# Altium schematic symbol library Symbols.SchLib: 8 symbols
Pins are listed as number, name and electrical type; pins without a type are passive.

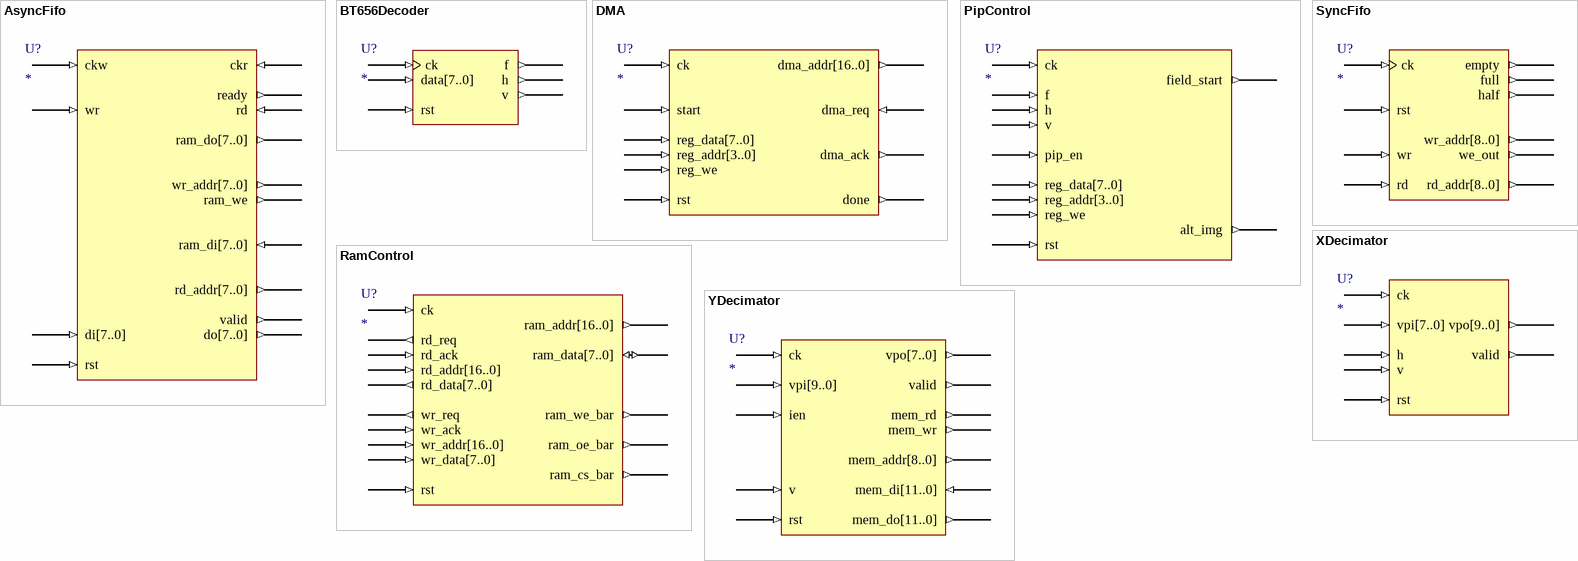
[diagram p0: symbols AsyncFifo to YDecimator]

## AsyncFifo
designator U?
pins: ckr (in), ckw (in), di[7..0] (in), do[7..0] (out), ram_di[7..0] (in), ram_do[7..0] (out), ram_we (out), rd (in), rd_addr[7..0] (out), ready (out), rst (in), valid (out), wr (in), wr_addr[7..0] (out)

## BT656Decoder
designator U?
pins: ck (in), data[7..0] (in), f (out), h (out), rst (in), v (out)

## DMA
designator U?
pins: ck (in), dma_ack (out), dma_addr[16..0] (out), dma_req (in), done (out), reg_addr[3..0] (in), reg_data[7..0] (in), reg_we (in), rst (in), start (in)

## PipControl
designator U?
pins: alt_img (out), ck (in), f (in), field_start (out), h (in), pip_en (in), reg_addr[3..0] (in), reg_data[7..0] (in), reg_we (in), rst (in), v (in)

## RamControl
designator U?
pins: ck (in), ram_addr[16..0] (out), ram_cs_bar (out), ram_data[7..0] (io), ram_oe_bar (out), ram_we_bar (out), rd_ack (in), rd_addr[16..0] (in), rd_data[7..0] (out), rd_req (out), rst (in), wr_ack (in), wr_addr[16..0] (in), wr_data[7..0] (in), wr_req (out)

## SyncFifo
designator U?
pins: ck (in), empty (out), full (out), half (out), rd (in), rd_addr[8..0] (out), rst (in), we_out (out), wr (in), wr_addr[8..0] (out)

## XDecimator
designator U?
pins: ck (in), h (in), rst (in), v (in), valid (out), vpi[7..0] (in), vpo[9..0] (out)

## YDecimator
designator U?
pins: ck (in), ien (in), mem_addr[8..0] (out), mem_di[11..0] (in), mem_do[11..0] (out), mem_rd (out), mem_wr (out), rst (in), v (in), valid (out), vpi[9..0] (in), vpo[7..0] (out)